# Altium schematic symbol library SCH - POWER - SWITCHMODE - TI LMR16020PDDAR.SchLib: 1 symbol
Pins are listed as number, name and electrical type; pins without a type are passive.

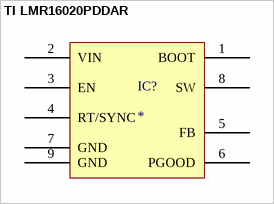
[diagram p0: symbol TI LMR16020PDDAR]

## TI LMR16020PDDAR
designator IC?
footprint TI SOIC-8 DDA0008B (SOIC, 8-Leads, Body 4.90x3.90mm, Pitch 1.27mm, Thermal Pad 4.90x2.95mm, IPC Medium Density)
pins: 1 BOOT, 2 VIN, 3 EN, 4 RT/SYNC, 5 FB, 6 PGOOD, 7 GND, 8 SW, 9 GND